# EAGLE library part ARDUINO_PRO_MICRO (library Arduino_Pro_micro)
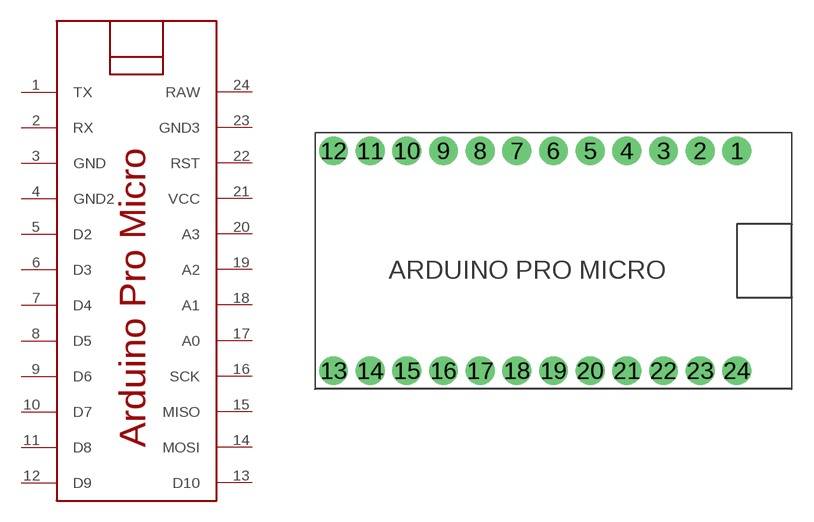
[diagram p0: symbol with the pads of ARDUINO_PRO_MICRO; footprint ARDUINO_PRO_MICRO]

Designator prefix -

## ARDUINO_PRO_MICRO  [ARDUINO_PRO_MICRO]
1  TX
2  RX
3  GND
4  GND2
5  D2
6  D3
7  D4
8  D5
9  D6
10  D7
11  D8
12  D9
13  D10
14  MOSI
15  MISO
16  SCK
17  A0
18  A1
19  A2
20  A3
21  VCC
22  RST
23  GND3
24  RAW

## Footprint ARDUINO_PRO_MICRO (pad centres in mm)
drill 1 pad 2: 1 29.21,16.51; 2 26.67,16.51; 3 24.13,16.51; 4 21.59,16.51; 5 19.05,16.51; 6 16.51,16.51; 7 13.97,16.51; 8 11.43,16.51; 9 8.89,16.51; 10 6.35,16.51; 11 3.81,16.51; 12 1.27,16.51; 13 1.27,1.27; 14 3.81,1.27; 15 6.35,1.27; 16 8.89,1.27; 17 11.43,1.27; 18 13.97,1.27; 19 16.51,1.27; 20 19.05,1.27; 21 21.59,1.27; 22 24.13,1.27; 23 26.67,1.27; 24 29.21,1.27